# EAGLE library part TAG_CONNECT_NO_HOLES (library ubo_PQ60)
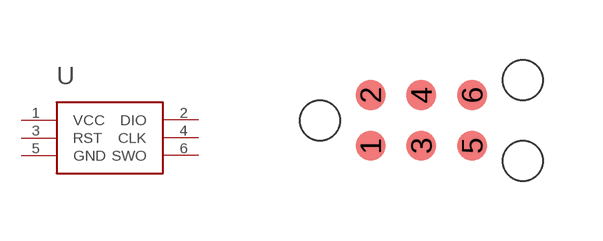
[diagram p30: symbol with the pads of TAG_CONNECT_NO_HOLES; footprint TAG_CONNECT_NO_HOLES]

Designator prefix -

## TAG_CONNECT_NO_HOLES  [TAG_CONNECT_NO_HOLES]
1  VCC
2  DIO
3  RST
4  CLK
5  GND
6  SWO

## Footprint TAG_CONNECT_NO_HOLES (pad centres in mm)
smd 0.75 x 0.75: 1 1.27,-0.635; 2 1.27,0.635; 3 2.54,-0.635; 4 2.54,0.635; 5 3.81,-0.635; 6 3.81,0.635
hole 1 at 0,0
hole 1 at 5.08,1.016
hole 1 at 5.08,-1.018